# Altium footprint library PcbLib1.PcbLib: 53 footprints (part 3 of 4)
Each footprint in its own frame and in the unit in brackets; x right, y up, seen from the top. Pads: shape width x height; smd on the part's side, far side on the other; paste and mask are expansions set on the pad; w line width, h text height; cw(c..) or ccw(c..) is an arc to the next point about the centre after c.
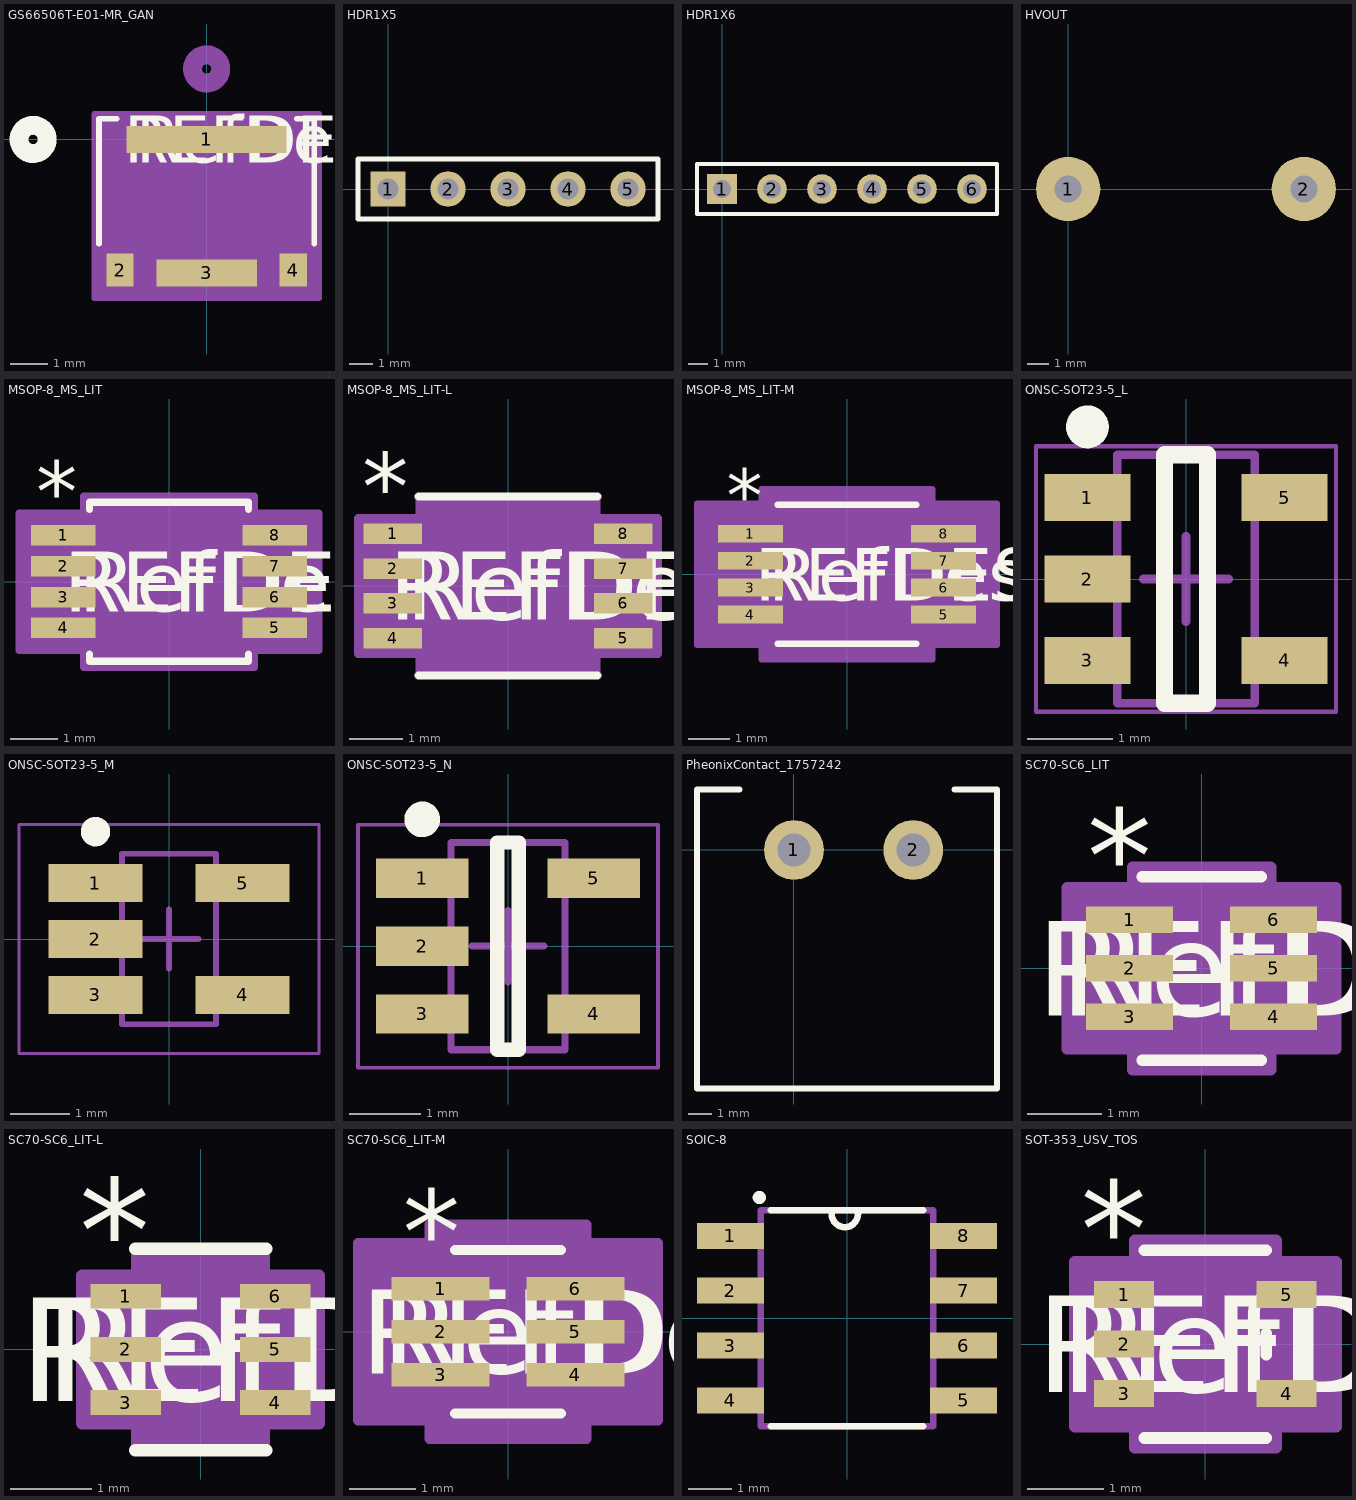
[diagram p2: the footprints below, top view; thin cyan lines are the x and y axes]

## GS66506T-E01-MR_GAN [mil]
pads (4):
  rect 170x29 smd paste+0 mask+0: 1(0,0)
  rect 29x35 smd paste-17.5 mask-17.5: 2(-92,-139) 4(92,-139)
  rect 107x29 smd paste-53.5 mask-53.5: 3(0,-142)
Top Overlay:
  circle w20: c-184.5,0 r15
  lines w6: -114.5,-111.13 -114.5,22 -95.74,22 ; 95.74,22 114.5,22 114.5,-111.13
  text "REFDES" at -87.5,-25 h50
  text "RefDes" at -75,-25 h50
Bottom Overlay:
  circle w20: c-184.5,0 r15
Mechanical 13:
  circle w20: c0,75 r15
  lines w1: -109.5,-159 -109.5,17 109.5,17 109.5,-159 -109.5,-159
  text "RefDes2" at -87.5,-25 h50
Mechanical 15:
  region: 119.5,27 -119.5,27 -119.5,-169 119.5,-169
  lines w6: -119.5,-169 119.5,-169 119.5,27 -119.5,27 -119.5,-169

## HDR1X5 [mm] "Connector; Header; 5 Position"
pads (5):
  rect 1.5x1.5 hole 0.9: 1(0,0)
  round 1.5 hole 0.9: 2(2.54,0) 3(5.08,0) 4(7.62,0) 5(10.16,0)
Top Overlay:
  lines w0.2: -1.27,-1.27 -1.27,1.27 11.43,1.27 11.43,-1.27 -1.27,-1.27

## HDR1X6 [mm] "Connector; Header; 6 Position"
pads (6):
  rect 1.5x1.5 hole 0.9: 1(0,0)
  round 1.5 hole 0.9: 2(2.54,0) 3(5.08,0) 4(7.62,0) 5(10.16,0) 6(12.7,0)
Top Overlay:
  lines w0.2: -1.27,-1.27 -1.27,1.27 13.97,1.27 13.97,-1.27 -1.27,-1.27

## HVOUT [mm]
pads (2):
  round 3 hole 1.27: 1(0,0) 2(11,0)

## MSOP-8_MS_LIT [mil]
pads (8):
  rect 53.5x17 smd paste+0 mask+0: 1(-87.75,38.39) 2(-87.75,12.8) 3(-87.75,-12.8) 4(-87.75,-38.39) 5(87.75,-38.39) 6(87.75,-12.8) 7(87.75,12.8) 8(87.75,38.39)
Top Overlay:
  lines w6: -66,-59.99 -66,-66 66,-66 66,-59.99 ; -66,59.99 -66,66 66,66 66,59.99
  text "REFDES" at -87.5,-25 h50
  text "*" at -110.25,50.39 h50
  text "RefDes" at -75,-25 h50
Mechanical 13:
  lines w0: -12,61 ccw(c0,61) 12,61
  lines w1: -100.5,-45.89 -100.5,-30.89 -61,-30.89 -61,-45.89 -100.5,-45.89 ; -100.5,-20.3 -100.5,-5.3 -61,-5.3 -61,-20.3 -100.5,-20.3 ; -100.5,5.3 -100.5,20.3 -61,20.3 -61,5.3 -100.5,5.3 ; -100.5,30.89 -100.5,45.89 -61,45.89 -61,30.89 -100.5,30.89 ; -61,-61 61,-61 61,61 -61,61 -61,-61 ; 61,-45.89 61,-30.89 100.5,-30.89 100.5,-45.89 61,-45.89 ; 61,-20.3 61,-5.3 100.5,-5.3 100.5,-20.3 61,-20.3 ; 61,5.3 61,20.3 100.5,20.3 100.5,5.3 61,5.3 ; 61,30.89 61,45.89 100.5,45.89 100.5,30.89 61,30.89
  text "*" at -58.5,8 h50
  text "RefDes2" at -87.5,-25 h50
Mechanical 15:
  region: -71,-56.89 -124.5,-56.89 -124.5,56.89 -71,56.89 -71,71 71,71 71,56.89 124.5,56.89 124.5,-56.89 71,-56.89 71,-71 -71,-71
  lines w6: -124.5,-56.89 -124.5,56.89 -71,56.89 -71,71 71,71 71,56.89 124.5,56.89 124.5,-56.89 71,-56.89 71,-71 -71,-71 -71,-56.89 -124.5,-56.89
3D body "MSOP-8_MS_LIT.step": height 43.11, standoff 0, extent -100.51,-60.98 100.51,60.98

## MSOP-8_MS_LIT-L [mil]
pads (8):
  rect 43x15 smd paste+0 mask+0: 1(-85,38.39) 2(-85,12.8) 3(-85,-12.8) 4(-85,-38.39) 5(85,-38.39) 6(85,-12.8) 7(85,12.8) 8(85,38.39)
Top Overlay:
  lines w6: -66,-66 66,-66 ; -66,66 66,66
  text "REFDES" at -87.5,-25 h50
  text "*" at -107.5,48.39 h50
  text "RefDes" at -75,-25 h50
Mechanical 13:
  lines w0: -12,61 ccw(c0,61) 12,61
  lines w1: -100.5,-45.89 -100.5,-30.89 -61,-30.89 -61,-45.89 -100.5,-45.89 ; -100.5,-20.3 -100.5,-5.3 -61,-5.3 -61,-20.3 -100.5,-20.3 ; -100.5,5.3 -100.5,20.3 -61,20.3 -61,5.3 -100.5,5.3 ; -100.5,30.89 -100.5,45.89 -61,45.89 -61,30.89 -100.5,30.89 ; -61,-61 61,-61 61,61 -61,61 -61,-61 ; 61,-45.89 61,-30.89 100.5,-30.89 100.5,-45.89 61,-45.89 ; 61,-20.3 61,-5.3 100.5,-5.3 100.5,-20.3 61,-20.3 ; 61,5.3 61,20.3 100.5,20.3 100.5,5.3 61,5.3 ; 61,30.89 61,45.89 100.5,45.89 100.5,30.89 61,30.89
  text "*" at -58.5,8 h50
  text "RefDes2" at -87.5,-25 h50
Mechanical 15:
  region: -65,-49.89 -110.5,-49.89 -110.5,49.89 -65,49.89 -65,65 65,65 65,49.89 110.5,49.89 110.5,-49.89 65,-49.89 65,-65 -65,-65
  lines w6: -110.5,-49.89 -110.5,49.89 -65,49.89 -65,65 65,65 65,49.89 110.5,49.89 110.5,-49.89 65,-49.89 65,-65 -65,-65 -65,-49.89 -110.5,-49.89
3D body "MSOP-8_MS_LIT.step": height 43.11, standoff 0, extent -100.51,-60.98 100.51,60.98

## MSOP-8_MS_LIT-M [mil]
pads (8):
  rect 61.5x17 smd paste+0 mask+0: 1(-91.75,38.39) 2(-91.75,12.8) 3(-91.75,-12.8) 4(-91.75,-38.39) 5(91.75,-38.39) 6(91.75,-12.8) 7(91.75,12.8) 8(91.75,38.39)
Top Overlay:
  lines w6: -66,-66 66,-66 ; -66,66 66,66
  text "RefDes" at -75,-25 h50
  text "*" at -114.25,50.39 h50
  text "REFDES" at -87.5,-25 h50
Mechanical 13:
  lines w0: -12,61 ccw(c0,61) 12,61
  lines w1: -100.5,-45.89 -61,-45.89 -61,-30.89 -100.5,-30.89 -100.5,-45.89 ; -100.5,-20.3 -61,-20.3 -61,-5.3 -100.5,-5.3 -100.5,-20.3 ; -100.5,5.3 -61,5.3 -61,20.3 -100.5,20.3 -100.5,5.3 ; -100.5,30.89 -61,30.89 -61,45.89 -100.5,45.89 -100.5,30.89 ; -61,-61 -61,61 61,61 61,-61 -61,-61 ; 61,-45.89 100.5,-45.89 100.5,-30.89 61,-30.89 61,-45.89 ; 61,-20.3 100.5,-20.3 100.5,-5.3 61,-5.3 61,-20.3 ; 61,5.3 100.5,5.3 100.5,20.3 61,20.3 61,5.3 ; 61,30.89 100.5,30.89 100.5,45.89 61,45.89 61,30.89
  text "RefDes2" at -87.5,-25 h50
  text "*" at -58.5,8 h50
Mechanical 15:
  region: -81,-66.89 -142.5,-66.89 -142.5,66.89 -81,66.89 -81,81 81,81 81,66.89 142.5,66.89 142.5,-66.89 81,-66.89 81,-81 -81,-81
  lines w6: -142.5,-66.89 -81,-66.89 -81,-81 81,-81 81,-66.89 142.5,-66.89 142.5,66.89 81,66.89 81,81 -81,81 -81,66.89 -142.5,66.89 -142.5,-66.89
3D body "MSOP-8_MS_LIT.step": height 43.11, standoff 0, extent -100.51,-60.98 100.51,60.98

## ONSC-SOT23-5_L [mm] "SOT23, 5-Leads, Body 2.90x1.6mm, Pitch 0.95mm, IPC High Density"
height 1
pads (5):
  rect 1x0.55 smd: 1(-1.15,0.95) 2(-1.15,0) 3(-1.15,-0.95) 4(1.15,-0.95) 5(1.15,0.95)
Top Overlay:
  circle w0.25: c-1.15,1.775 r0.125
  lines w0.2: -0.25,-1.45 -0.25,1.45 0.25,1.45 0.25,-1.45 -0.25,-1.45
Mechanical 13:
  lines w0.1: -0.8,-1.45 0.8,-1.45 0.8,1.45 -0.8,1.45 -0.8,-1.45
Mechanical 15:
  lines w0.05: -1.75,-1.55 1.75,-1.55 1.75,1.55 -1.75,1.55 -1.75,-1.55
  lines w0.1: -0.5,0 0.5,0 ; 0,-0.5 0,0.5
3D body: height 1, standoff 0.01, extent -0.8,-1.45 0.8,1.45

## ONSC-SOT23-5_M [mm] "SOT23, 5-Leads, Body 2.90x1.6mm, Pitch 0.95mm, IPC Low Density"
height 1
pads (5):
  rect 1.6x0.65 smd: 1(-1.25,0.95) 2(-1.25,0) 3(-1.25,-0.95) 4(1.25,-0.95) 5(1.25,0.95)
Top Overlay:
  circle w0.25: c-1.25,1.825 r0.125
Mechanical 13:
  lines w0.1: -0.8,-1.45 0.8,-1.45 0.8,1.45 -0.8,1.45 -0.8,-1.45
Mechanical 15:
  lines w0.05: -2.55,-1.95 2.55,-1.95 2.55,1.95 -2.55,1.95 -2.55,-1.95
  lines w0.1: -0.5,0 0.5,0 ; 0,-0.5 0,0.5
3D body: height 1, standoff 0.01, extent -0.8,-1.45 0.8,1.45

## ONSC-SOT23-5_N [mm] "SOT23, 5-Leads, Body 2.90x1.6mm, Pitch 0.95mm, IPC Medium Density"
height 1
pads (5):
  rect 1.3x0.55 smd: 1(-1.2,0.95) 2(-1.2,0) 3(-1.2,-0.95) 4(1.2,-0.95) 5(1.2,0.95)
Top Overlay:
  circle w0.25: c-1.2,1.775 r0.125
  lines w0.2: -0.15,-1.45 -0.15,1.45 0.15,1.45 0.15,-1.45 -0.15,-1.45
Mechanical 13:
  lines w0.1: -0.8,-1.45 0.8,-1.45 0.8,1.45 -0.8,1.45 -0.8,-1.45
Mechanical 15:
  lines w0.05: -2.1,-1.7 2.1,-1.7 2.1,1.7 -2.1,1.7 -2.1,-1.7
  lines w0.1: -0.5,0 0.5,0 ; 0,-0.5 0,0.5
3D body: height 1, standoff 0.01, extent -0.8,-1.45 0.8,1.45

## PheonixContact_1757242 [mm]
pads (2):
  round 2.5 hole 1.4: 1(0,0) 2(5,0)
Top Overlay:
  lines w0.254: -4.064,-10 8.509,-10 ; -4.064,-9.906 -4.064,2.54 -2.286,2.54 ; 6.731,2.54 8.509,2.54 8.509,-9.906
3D body "pxc_1757242_06_MSTBA-2-5-2-G-5-08_3D.stp": height 0, standoff -12, extent -3.778,-7.401 8.382,4.699

## SC70-SC6_LIT [mil]
pads (6):
  rect 46x14 smd paste+0 mask+0: 1(-38,25.59) 2(-38,0) 3(-38,-25.59) 4(38,-25.59) 5(38,0) 6(38,25.59)
Top Overlay:
  lines w6: -31.5,-48.5 31.5,-48.5 ; -31.5,48.5 31.5,48.5
  text "REFDES" at -87.5,-25 h50
  text "*" at -60.5,34.59 h50
  text "RefDes" at -75,-25 h50
Mechanical 13:
  lines w0: -12,43.5 ccw(c0,43.5) 12,43.5
  lines w1: -47,-31.59 -47,-19.59 -26.5,-19.59 -26.5,-31.59 -47,-31.59 ; -47,-6 -47,6 -26.5,6 -26.5,-6 -47,-6 ; -47,19.59 -47,31.59 -26.5,31.59 -26.5,19.59 -47,19.59 ; -26.5,-43.5 26.5,-43.5 26.5,43.5 -26.5,43.5 -26.5,-43.5 ; 26.5,-31.59 26.5,-19.59 47,-19.59 47,-31.59 26.5,-31.59 ; 26.5,-6 26.5,6 47,6 47,-6 26.5,-6 ; 26.5,19.59 26.5,31.59 47,31.59 47,19.59 26.5,19.59
  text "*" at -24,-9.5 h50
  text "RefDes2" at -87.5,-25 h50
Mechanical 15:
  region: -36.5,-42.59 -71,-42.59 -71,42.59 -36.5,42.59 -36.5,53.5 36.5,53.5 36.5,42.59 71,42.59 71,-42.59 36.5,-42.59 36.5,-53.5 -36.5,-53.5
  lines w6: -71,-42.59 -71,42.59 -36.5,42.59 -36.5,53.5 36.5,53.5 36.5,42.59 71,42.59 71,-42.59 36.5,-42.59 36.5,-53.5 -36.5,-53.5 -36.5,-42.59 -71,-42.59
3D body "SC70-SC6_LIT.step": height 67.09, standoff 0, extent -47.01,-43.5 47.01,43.5

## SC70-SC6_LIT-L [mil]
pads (6):
  rect 34x12 smd paste+0 mask+0: 1(-36,25.59) 2(-36,0) 3(-36,-25.59) 4(36,-25.59) 5(36,0) 6(36,25.59)
Top Overlay:
  lines w6: -31.5,-48.5 31.5,-48.5 ; -31.5,48.5 31.5,48.5
  text "REFDES" at -87.5,-25 h50
  text "*" at -58.5,32.59 h50
  text "RefDes" at -75,-25 h50
Mechanical 13:
  lines w0: -12,43.5 ccw(c0,43.5) 12,43.5
  lines w1: -47,-31.59 -47,-19.59 -26.5,-19.59 -26.5,-31.59 -47,-31.59 ; -47,-6 -47,6 -26.5,6 -26.5,-6 -47,-6 ; -47,19.59 -47,31.59 -26.5,31.59 -26.5,19.59 -47,19.59 ; -26.5,-43.5 26.5,-43.5 26.5,43.5 -26.5,43.5 -26.5,-43.5 ; 26.5,-31.59 26.5,-19.59 47,-19.59 47,-31.59 26.5,-31.59 ; 26.5,-6 26.5,6 47,6 47,-6 26.5,-6 ; 26.5,19.59 26.5,31.59 47,31.59 47,19.59 26.5,19.59
  text "*" at -24,-9.5 h50
  text "RefDes2" at -87.5,-25 h50
Mechanical 15:
  region: -30.5,-35.59 -57,-35.59 -57,35.59 -30.5,35.59 -30.5,47.5 30.5,47.5 30.5,35.59 57,35.59 57,-35.59 30.5,-35.59 30.5,-47.5 -30.5,-47.5
  lines w6: -57,-35.59 -57,35.59 -30.5,35.59 -30.5,47.5 30.5,47.5 30.5,35.59 57,35.59 57,-35.59 30.5,-35.59 30.5,-47.5 -30.5,-47.5 -30.5,-35.59 -57,-35.59
3D body "SC70-SC6_LIT.step": height 67.09, standoff 0, extent -47.01,-43.5 47.01,43.5

## SC70-SC6_LIT-M [mil]
pads (6):
  rect 58x14 smd paste+0 mask+0: 1(-40,25.59) 2(-40,0) 3(-40,-25.59) 4(40,-25.59) 5(40,0) 6(40,25.59)
Top Overlay:
  lines w6: -31.5,-48.5 31.5,-48.5 ; -31.5,48.5 31.5,48.5
  text "REFDES" at -87.5,-25 h50
  text "*" at -62.5,34.59 h50
  text "RefDes" at -75,-25 h50
Mechanical 13:
  lines w0: -12,43.5 ccw(c0,43.5) 12,43.5
  lines w1: -47,-31.59 -47,-19.59 -26.5,-19.59 -26.5,-31.59 -47,-31.59 ; -47,-6 -47,6 -26.5,6 -26.5,-6 -47,-6 ; -47,19.59 -47,31.59 -26.5,31.59 -26.5,19.59 -47,19.59 ; -26.5,-43.5 26.5,-43.5 26.5,43.5 -26.5,43.5 -26.5,-43.5 ; 26.5,-31.59 26.5,-19.59 47,-19.59 47,-31.59 26.5,-31.59 ; 26.5,-6 26.5,6 47,6 47,-6 26.5,-6 ; 26.5,19.59 26.5,31.59 47,31.59 47,19.59 26.5,19.59
  text "*" at -24,-9.5 h50
  text "RefDes2" at -87.5,-25 h50
Mechanical 15:
  region: -46.5,-52.59 -89,-52.59 -89,52.59 -46.5,52.59 -46.5,63.5 46.5,63.5 46.5,52.59 89,52.59 89,-52.59 46.5,-52.59 46.5,-63.5 -46.5,-63.5
  lines w6: -89,-52.59 -89,52.59 -46.5,52.59 -46.5,63.5 46.5,63.5 46.5,52.59 89,52.59 89,-52.59 46.5,-52.59 46.5,-63.5 -46.5,-63.5 -46.5,-52.59 -89,-52.59
3D body "SC70-SC6_LIT.step": height 67.09, standoff 0, extent -47.01,-43.5 47.01,43.5

## SOIC-8 [mm]
pads (8):
  rect 1.55x0.6 smd: 1(-2.7,1.905) 2(-2.7,0.635) 3(-2.7,-0.635) 4(-2.7,-1.905) 5(2.7,-1.905) 6(2.7,-0.635) 7(2.7,0.635) 8(2.7,1.905)
Top Overlay:
  circle w0.152: c-2.032,2.794 r0.076
  lines w0.152: -1.769,-2.502 1.769,-2.502 ; -1.769,2.502 1.769,2.502 ; -0.356,2.413 ccw(c-0.051,2.413) 0.254,2.413
Mechanical 1:
  lines w0.152: -1.994,-2.502 -1.994,2.502 1.994,2.502 1.994,-2.502 -1.994,-2.502
3D body: height 1.75, standoff 0, extent -1.994,-2.502 1.994,2.502

## SOT-353_USV_TOS [mil]
pads (5):
  rect 31x14 smd paste+0 mask+0: 1(-42,25.59) 2(-42,0) 3(-42,-25.59) 4(42,-25.59) 5(42,25.59)
Top Overlay:
  lines w6: -31.5,-48.5 31.5,-48.5 ; -31.5,48.5 31.5,48.5 ; 31.5,-5.49 31.5,5.49
  text "REFDES" at -87.5,-25 h50
  text "*" at -64.5,34.59 h50
  text "RefDes" at -75,-25 h50
Mechanical 13:
  lines w0: -12,43.5 ccw(c0,43.5) 12,43.5
  lines w1: -43.5,-31.59 -43.5,-19.59 -26.5,-19.59 -26.5,-31.59 -43.5,-31.59 ; -43.5,-6 -43.5,6 -26.5,6 -26.5,-6 -43.5,-6 ; -43.5,19.59 -43.5,31.59 -26.5,31.59 -26.5,19.59 -43.5,19.59 ; -26.5,-43.5 26.5,-43.5 26.5,43.5 -26.5,43.5 -26.5,-43.5 ; 26.5,-31.59 26.5,-19.59 43.5,-19.59 43.5,-31.59 26.5,-31.59 ; 26.5,19.59 26.5,31.59 43.5,31.59 43.5,19.59 26.5,19.59
  text "*" at -24,-9.5 h50
  text "RefDes2" at -87.5,-25 h50
Mechanical 15:
  region: -36.5,-42.59 -67.5,-42.59 -67.5,42.59 -36.5,42.59 -36.5,53.5 36.5,53.5 36.5,42.59 67.5,42.59 67.5,-42.59 36.5,-42.59 36.5,-53.5 -36.5,-53.5
  lines w6: -67.5,-42.59 -67.5,42.59 -36.5,42.59 -36.5,53.5 36.5,53.5 36.5,42.59 67.5,42.59 67.5,-42.59 36.5,-42.59 36.5,-53.5 -36.5,-53.5 -36.5,-42.59 -67.5,-42.59
3D body "SOT-353_USV_TOS.step": height 39.09, standoff 0, extent -43.5,-43.5 43.5,43.5